# EAGLE library part TCS3200D-BACKUP (library _openSX70)
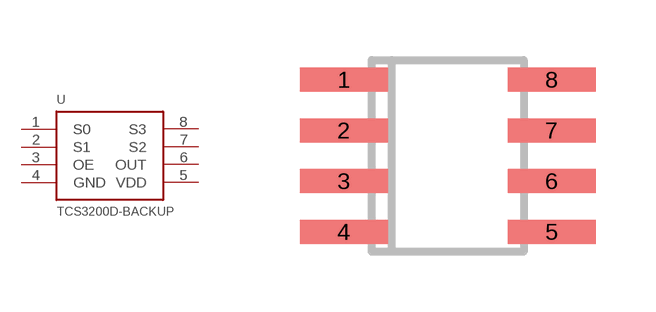
[diagram p13: symbol with the pads of SOIC8; footprint SOIC8]

Designator prefix U

## TCS3200D-BACKUP (AVAILABILITY: Unavailable; DESCRIPTION: TSL3200 Series 5.5 V Programmable Color Light-To-Frequency Converter - SOIC-8; MF: ams; MP: TCS3200D-TR; PACKAGE: SOIC-8 ams; PRICE: None)  [SOIC8]
1  S0
2  S1
3  OE
4  GND
5  VDD
6  OUT
7  S2
8  S3

## Footprint SOIC8 (pad centres in mm)
Small Outline IC
smd 2.2 x 0.6: 1 -2.6,1.905; 2 -2.6,0.635; 3 -2.6,-0.635; 4 -2.6,-1.905; 5 2.6,-1.905; 6 2.6,-0.635; 7 2.6,0.635; 8 2.6,1.905